# EAGLE library part TRANSISTOR_NPN_PNP (library heck)
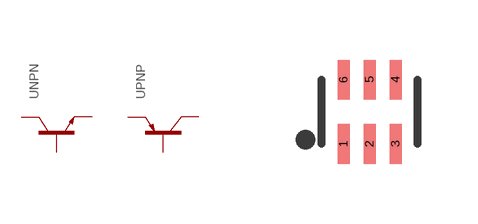
[diagram p42: symbol with the pads of SOT363; footprint SOT363]

Designator prefix U; gates NPN=TRANSISTOR_NPN PNP=TRANSISTOR_PNP

## TRANSISTOR_NPN_PNP_SOT363  [SOT363]
1  NPN:E
2  NPN:B
3  PNP:C
4  PNP:E
5  PNP:B
6  NPN:C

## Footprint SOT363 (pad centres in mm)
smd 0.3 x 0.99: 1 -0.65,-0.8; 2 0,-0.8; 3 0.65,-0.8; 4 0.65,0.81; 5 0,0.81; 6 -0.65,0.81